# EAGLE library part GH1.25-9P (library JST-GH1.25)
JST GH 1.25mm PITCH SMD HEADER
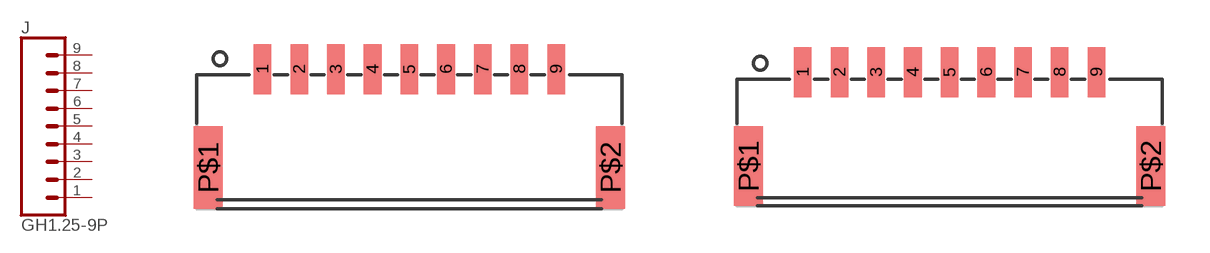
[diagram p3: symbol with the pads of BM09B-GHS-TBT; footprints BM09B-GHS-TBT, SM09B-GHS-TB]

Designator prefix J

## GH1.25-9P-BM09B-GHS-TBT  [BM09B-GHS-TBT]
1  1  pas
2  2  pas
3  3  pas
4  4  pas
5  5  pas
6  6  pas
7  7  pas
8  8  pas
9  9  pas

## GH1.25-9P-SM09B-GHS-TB  [SM09B-GHS-TB]
Pads as for BM09B-GHS-TBT

## Footprint BM09B-GHS-TBT (pad centres in mm)
TOP ENTRY JST GH 1.25mm SMD HEADER
smd 0.6 x 1.7: 1 -5,4.75; 2 -3.75,4.75; 3 -2.5,4.75; 4 -1.25,4.75; 5 0,4.75; 6 1.25,4.75; 7 2.5,4.75; 8 3.75,4.75; 9 5,4.75
smd 1 x 2.8: P$1 -6.85,1.4; P$2 6.85,1.4

## Footprint SM09B-GHS-TB (pad centres in mm)
SIDE ENTRY JST GH 1.25mm SMD HEADER
smd 0.6 x 1.7: 1 -5,4.55; 2 -3.75,4.55; 3 -2.5,4.55; 4 -1.25,4.55; 5 0,4.55; 6 1.25,4.55; 7 2.5,4.55; 8 3.75,4.55; 9 5,4.55
smd 1 x 2.7: P$1 -6.85,1.35; P$2 6.85,1.35